# EAGLE library part XCL210D301GR-G (library synapseWearV1-4)
Conv DC-DC Single Step Down 3V 2V to 6V 8-Pin CL-2025 T/R
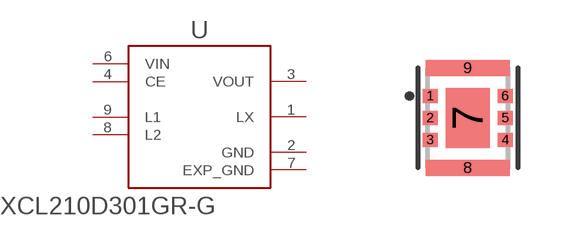
[diagram p2: symbol with the pads of CL-2025-02; footprint CL-2025-02]

Designator prefix U

## XCL210D301GR-G (Description: Conv DC-DC Single Step Down 3V 2V to 6V 8-Pin CL-2025 T/R; MF: Torex; MP: XCL210D301GR-G; Mouser_Purchase_URL: https://www.mouser.jp/ProductDetail/Torex-Semiconductor/XCL210D301GR-G/?qs=%2fha2pyFaduh48KYoemvo%2fAcDXCeWNnSbMJ2P5IMkT%252bdplPvtkBni7w%3d%3d; Package: SMD-8 Torex)  [CL-2025-02]
1  LX
2  GND  pwr
3  VOUT  out
4  CE  in
6  VIN  in
7  EXP_GND
8  L2  pas
9  L1  pas

## Footprint CL-2025-02 (pad centres in mm)
smd 0.375 x 0.35: 1 -0.938,0.55; 2 -0.938,0; 3 -0.938,-0.55; 4 0.938,-0.55; 5 0.938,0; 6 0.938,0.55
smd 1.1 x 1.5: 7 0,0
smd 2.1 x 0.4: 8 0,-1.25; 9 0,1.25